# Altium schematic symbol library SDRdrum.SchLib: 41 symbols
Pins are listed as number, name and electrical type; pins without a type are passive.

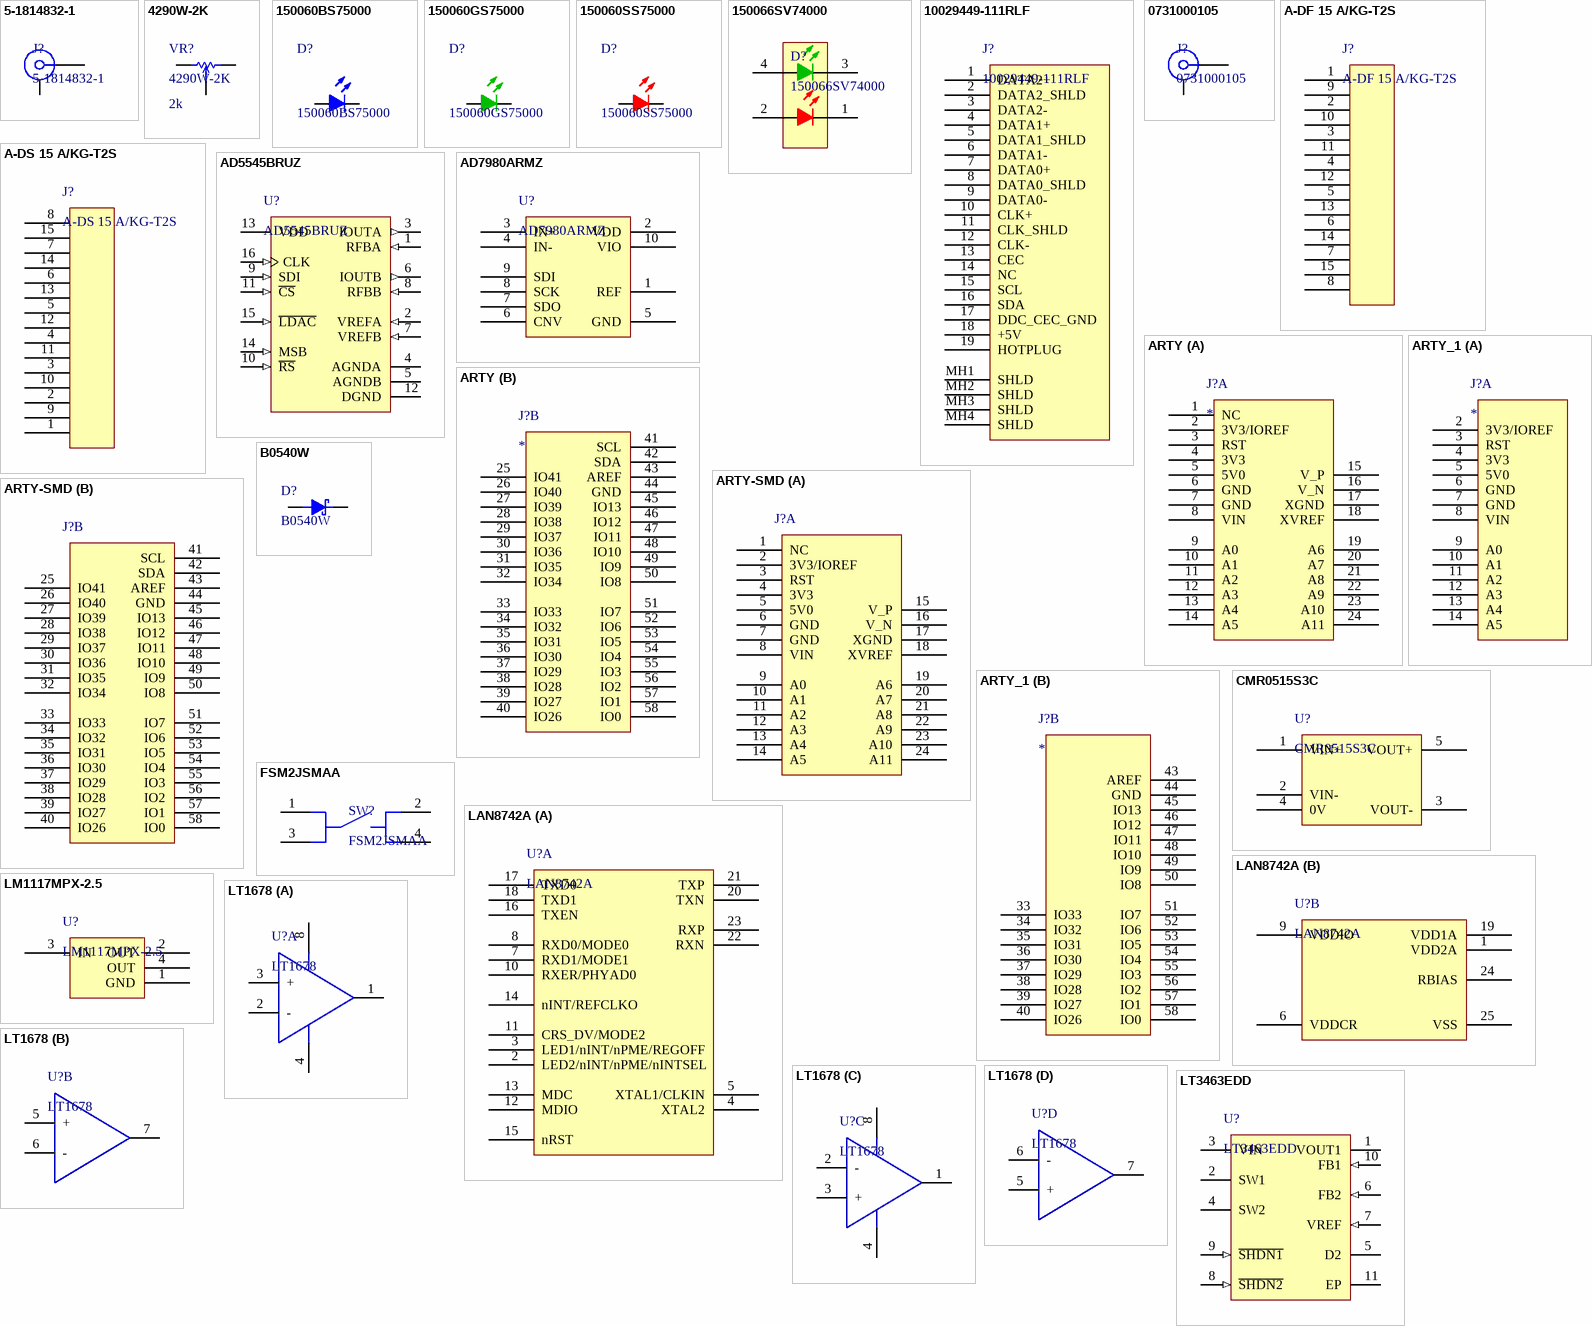
[diagram p0: symbols 5-1814832-1 to LT3463EDD]

## 5-1814832-1
designator J?
Connector, SMA Female Jack, Vertical, Through Hold
footprint 5-1814832-1
pins: 1, MH

## 4290W-2K
designator VR?  value 2k
footprint 4290W
pins: 1, 2, 3

## 150060BS75000
designator D?
LED, Blue (470 nm), 145 mcd, 20 mA, 0805; Supplier 1: Digi-Key; Supplier Part Number 1: 475-1410-1-ND
footprint WL-SMCW-0603-B (Chip Array, Concave, 2-Leads, Pitch 1.27mm,  Body 1.25x2.00mm,  IPC Medium Density)
pins: 1 K, 2 A

## 150060GS75000
designator D?
LED, Green (520 nm), 430 mcd, 20 mA, 0805; Supplier 1: Digi-Key; Supplier Part Number 1: 475-1410-1-ND
footprint WL-SMCW-0603-G (Chip Array, Concave, 2-Leads, Pitch 1.27mm,  Body 1.25x2.00mm,  IPC Medium Density)
pins: 1 K, 2 A

## 150060SS75000
designator D?
LED, Red (630 nm), 60 mcd, 20 mA, 0603; Supplier 1: Digi-Key; Supplier Part Number 1: 475-1278-1-ND
footprint WL-SMCW-0603-R (Chip Array, Concave, 2-Leads, Pitch 1.27mm,  Body 1.25x2.00mm,  IPC Medium Density)
pins: 1 K, 2 A

## 150066SV74000
designator D?
LED, Green (570 nm)/Red (630 nm), Independent, 30 mcd/55 mcd, 20 mA, 0606
footprint WL-SBCW-0606-GR (Chip Array, Concave, 4-Leads, Pitch 0.85mm,  Body 1.60x1.60mm,  IPC Medium Density)
pins: 1 K, 2 A, 3 K, 4 A

## 10029449-111RLF
designator J?
Connector, Receptacle, HDMI, Right Angle, SMT
footprint 10029449-111RLF
pins: 1 DATA2+, 2 DATA2_SHLD, 3 DATA2-, 4 DATA1+, 5 DATA1_SHLD, 6 DATA1-, 7 DATA0+, 8 DATA0_SHLD, 9 DATA0-, 10 CLK+, 11 CLK_SHLD, 12 CLK-, 13 CEC, 14 NC, 15 SCL, 16 SDA, 17 DDC_CEC_GND, 18 +5V, 19 HOTPLUG, MH1 SHLD, MH2 SHLD, MH3 SHLD, MH4 SHLD

## 0731000105
designator J?
Connector, BNC Female Jack, Right Angle, Through Hole
footprint 0731000105
pins: 1, S

## A-DF 15 A/KG-T2S
designator J?
Connector, DA-15 Female, RIght Angle
footprint A-DF 15 A/KG-T2S
pins: 1, 2, 3, 4, 5, 6, 7, 8, 9, 10, 11, 12, 13, 14, 15

## A-DS 15 A/KG-T2S
designator J?
Connector, DA-15 Male, RIght Angle
footprint A-DS 15 A/KG-T2S
pins: 1, 2, 3, 4, 5, 6, 7, 8, 9, 10, 11, 12, 13, 14, 15

## AD5545BRUZ
designator U?
DAC, Dual, 16-bit, Current Output, SPI, -40 to 85 C, 16 TSSOP; Supplier 1: Digi-Key; Supplier Part Number 1: AD5545BRUZ-ND
footprint TSOP65P640X120-16N (TSOP, 16-Leads, Body 5.00x4.40mm, Pitch 0.65mm, IPC Medium Density)
pins: 1 RFBA (in) "Establish voltage output for DAC A by connecting this pin to an external amplifier output", 2 VREFA (in) "DAC A Reference Voltage Input Terminal. Establishes DAC A full-scale output voltage. This pin can be tied to the VDD pin.", 3 IOUTA (out) "DAC A Current Output.", 4 AGNDA (power) "DAC A Analog Ground.", 5 AGNDB (power) "DAC B Analog Ground.", 6 IOUTB (out) "DAC B Current Output.", 7 VREFB (in) "DAC B Reference Voltage Input Terminal. Establishes DAC B full-scale output voltage. This pin can be tied to the VDD pin.", 8 RFBB (in) "Establish voltage output for DAC B by the RFBB pin connecting to an external amplifier output.", 9 SDI (in) "Serial Data Input. Input data loads directly into the shift register.", 10 ~{RS} (in) "Reset Pin, Active Low Input. Input registers and DAC registers are set to all 0s or midscale. Register Data = 0x0000 when MSB = 0. Register Data = 0x8000 for AD5545 and 0x2000 for AD5555 when MSB = 1.", 11 ~{CS} (in) "Chip Select, Active Low Input. Disables shift register loading when high. Transfers serial register data to the input register when C\S\/L\D\A\C\ returns high. This does not affect L\D\A\C\ operation.", 12 DGND (power) "Digital Ground Pin.", 13 VDD (power) "Positive Power Supply Input. Specified range of operation 5 V +/- 10% or 3 V +/- 10%.", 14 MSB (in) "MSB bit sets output to either 0 or midscale during a RESET pulse (R\S\) or at system power-on. Output equals zero scale when MSB = 0 and midscale when MSB = 1. MSB pin can also be tied permanently to ground or VDD.", 15 ~{LDAC} (in) "Load DAC Register Strobe, Level Sensitive Active Low. Transfers all input register data to DAC registers. Asynchronous active low input. See Table 7 and Table 8 for operation.", 16 CLK (in) "Clock Input. Positive edge clocks data into shift register"

## AD7980ARMZ
designator U?
ADC, 16-bit, 1 Msps, Pseudo-Differential Input, SPI, 10 TSSOP
footprint TSSOP50P490X110-10N (TSSOP, 10-Leads, Body 3.00x3.00mm, Pitch 0.50mm, IPC Medium Density)
pins: 1 REF, 2 VDD, 3 IN+, 4 IN-, 5 GND, 6 CNV, 7 SDO, 8 SCK, 9 SDI, 10 VIO

## ARTY
designator J?
footprint ARTY-TH
part A pins: 1 NC, 2 3V3/IOREF, 3 RST, 4 3V3, 5 5V0, 6 GND, 7 GND, 8 VIN, 9 A0, 10 A1, 11 A2, 12 A3, 13 A4, 14 A5, 15 V_P, 16 V_N, 17 XGND, 18 XVREF, 19 A6, 20 A7, 21 A8, 22 A9, 23 A10, 24 A11
part B pins: 25 IO41, 26 IO40, 27 IO39, 28 IO38, 29 IO37, 30 IO36, 31 IO35, 32 IO34, 33 IO33, 34 IO32, 35 IO31, 36 IO30, 37 IO29, 38 IO28, 39 IO27, 40 IO26, 41 SCL, 42 SDA, 43 AREF, 44 GND, 45 IO13, 46 IO12, 47 IO11, 48 IO10, 49 IO9, 50 IO8, 51 IO7, 52 IO6, 53 IO5, 54 IO4, 55 IO3, 56 IO2, 57 IO1, 58 IO0

## ARTY-SMD
designator J?  (value not drawn)
footprint ARTY-SMD
part A pins: 1 NC, 2 3V3/IOREF, 3 RST, 4 3V3, 5 5V0, 6 GND, 7 GND, 8 VIN, 9 A0, 10 A1, 11 A2, 12 A3, 13 A4, 14 A5, 15 V_P, 16 V_N, 17 XGND, 18 XVREF, 19 A6, 20 A7, 21 A8, 22 A9, 23 A10, 24 A11
part B pins: 25 IO41, 26 IO40, 27 IO39, 28 IO38, 29 IO37, 30 IO36, 31 IO35, 32 IO34, 33 IO33, 34 IO32, 35 IO31, 36 IO30, 37 IO29, 38 IO28, 39 IO27, 40 IO26, 41 SCL, 42 SDA, 43 AREF, 44 GND, 45 IO13, 46 IO12, 47 IO11, 48 IO10, 49 IO9, 50 IO8, 51 IO7, 52 IO6, 53 IO5, 54 IO4, 55 IO3, 56 IO2, 57 IO1, 58 IO0

## ARTY_1
designator J?
footprint ARTY-TH_1
part A pins: 2 3V3/IOREF, 3 RST, 4 3V3, 5 5V0, 6 GND, 7 GND, 8 VIN, 9 A0, 10 A1, 11 A2, 12 A3, 13 A4, 14 A5
part B pins: 33 IO33, 34 IO32, 35 IO31, 36 IO30, 37 IO29, 38 IO28, 39 IO27, 40 IO26, 43 AREF, 44 GND, 45 IO13, 46 IO12, 47 IO11, 48 IO10, 49 IO9, 50 IO8, 51 IO7, 52 IO6, 53 IO5, 54 IO4, 55 IO3, 56 IO2, 57 IO1, 58 IO0

## B0540W
designator D?
Supplier 1: Digi-Key; Supplier Part Number 1: B0540W-FDICT-ND
footprint SODFL370X135-2N (SODFL, 2-Leads, Body 1.55x3.70mm, IPC Medium Density)
pins: 1 K, 2 A

## CMR0515S3C
designator U?
Supplier 1: Digi-Key; Supplier Part Number 1: 811-2900-5-ND
footprint CMR-3C
pins: 1 VIN+, 2 VIN-, 3 VOUT-, 4 0V, 5 VOUT+

## FSM2JSMAA
designator SW?
footprint FSM2JSMA
pins: 1, 2, 3, 4

## LAN8742A
designator U?
10/100 Ethernet PHY, RMII, 0 to 85 C, 24 QFN; Supplier 1: Digikey; Supplier Part Number 1: LAN8742A-CZ-ND
footprint QFN50P400X400X100_HS-25N (QFN, 24-Leads, Body 4.00x4.00mm, Pitch 0.50mm, Thermal Pad 2.50x2.50mm, IPC Medium Density)
ibis lan8742i (Model Description)
part A pins: 2 LED2/nINT/nPME/nINTSEL, 3 LED1/nINT/nPME/REGOFF, 4 XTAL2, 5 XTAL1/CLKIN, 7 RXD1/MODE1, 8 RXD0/MODE0, 10 RXER/PHYAD0, 11 CRS_DV/MODE2, 12 MDIO, 13 MDC, 14 nINT/REFCLKO, 15 nRST, 16 TXEN, 17 TXD0, 18 TXD1, 20 TXN, 21 TXP, 22 RXN, 23 RXP
part B pins: 1 VDD2A, 6 VDDCR, 9 VDDIO, 19 VDD1A, 24 RBIAS, 25 VSS

## LM1117MPX-2.5
designator U?
LDO, +2.5 V Output
pins: 1 GND, 2 OUT, 3 IN, 4 OUT

## LT1678
designator U?
Dual/Quad Low Noise, Rail-to-Rail, Precision Op Amps, 8-Pin SOIC; Supplier 1: Digi-Key; Supplier Part Number 1: LT1678CS8#PBF-ND
footprint SOIC127P600X175-8M (SOIC, 8-Leads, Body 4.90x3.90mm, Pitch 1.27mm, IPC Low Density)
part A pins: 1 NC hidden, 1 OUT1, 2 -, 3 +, 4 V-, 8 NC hidden, 8 V+
part B pins: 5 +, 6 -, 7 OUT1
part C pins: 1 OUT1, 2 -, 3 +, 4 V-, 8 V+
part D pins: 5 +, 6 -, 7 OUT1

## LT3463EDD
designator U?
Dual Micropower DC/DC Converters with Schottky Diodes, 10-Pin DFN; Supplier 1: Digi-Key; Supplier Part Number 1: LT3463EDD#PBF-ND
footprint QFN50P300X300X80_HS-11N (QFN, 10-Leads, Body 3.00x3.00mm, Pitch 0.50mm, Thermal Pad 1.65x2.38mm, IPC Medium Density)
pins: 1 VOUT1 (power) "Output Voltage Switcher 1. This is the cathode of an internal Schottky diode whose anode is connected to the SW1 pin.", 2 SW1 "Switch Pin for Switcher 1. This is the collector of the internal NPN switch. Minimize the metal trace area connected to this pin to minimize EMI.", 3 VIN (power) "Input Supply Pin. Bypass this pin with a capacitor as close to the device as possible.", 4 SW2 (power) "Switch Pin for Switcher 2. This is the collector of the internal NPN switch. Minimize the metal trace area connected to this pin to minimize EMI.", 5 D2 "Diode for Switcher 2. This is the anode of an internal Schottky diode whose cathode connected to the GND pin.", 6 FB2 (in) "Feedback Pin for Switcher 2. Set the output voltage by selecting values for R3 and R4.", 7 VREF (in) "Voltage Reference Pin (1.25V). This pin is used along with FB2 to set the negative output voltage for Switcher 2.", 8 ~{SHDN2} (in) "Shutdown Pin for Switcher 2. Pull this pin above 1.5V to enable Switcher 2. Pull below 0.3V to turn it off. Do not leave this pin floating.", 9 ~{SHDN1} (in) "Shutdown Pin for Switcher 1. Pull this pin above 1.5V to enable Switcher 1. Pull below 0.3V to turn it off. Do not leave this pin floating.", 10 FB1 (in) "Feedback Pin for Switcher 1. Set the output voltage by selecting values for R1 and R2.", 11 EP (power) "Exposed Pad. Solder this exposed pad directly to the local ground plane. This pad must be electrically connected for proper operation."

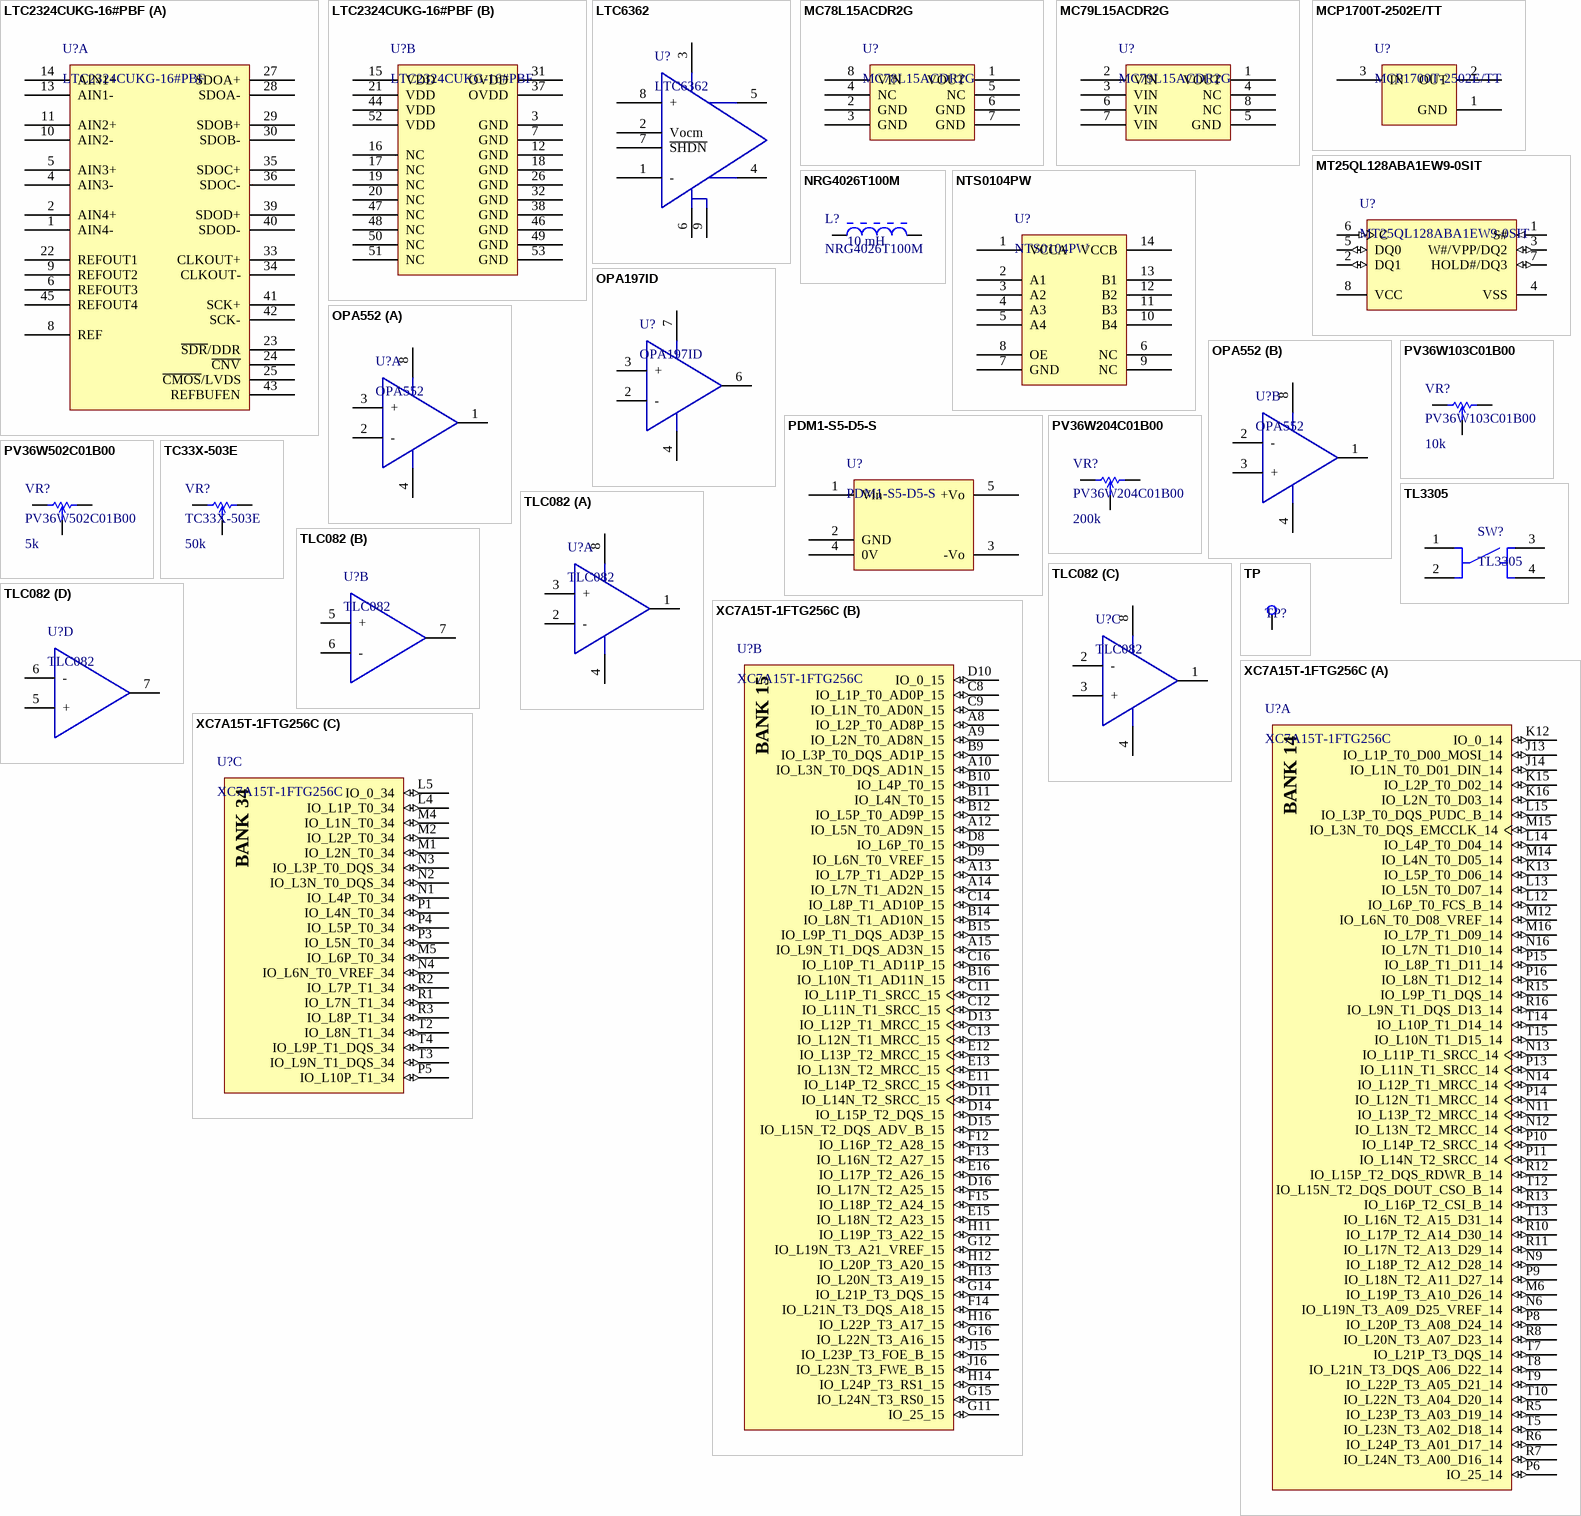
[diagram p1: symbols LTC2324CUKG-16#PBF to XC7A15T-1FTG256C]

## LTC2324CUKG-16#PBF
designator U?
ADC, Quad, 16-bit, 2 Msps, Differential Input, SPI/LVDS, 0 to 70 C, 52 QFN; Supplier 1: Digi-Key; Supplier Part Number 1: LTC2324HUKG-16#PBF-ND
footprint QFN50P700X800X80_HS-53N (QFN, 52-Leads, Body 7.00x8.00mm, Pitch 0.50mm, Thermal Pad 5.41x6.45mm, IPC Medium Density)
part A pins: 1 AIN4-, 2 AIN4+, 4 AIN3-, 5 AIN3+, 6 REFOUT3, 8 REF, 9 REFOUT2, 10 AIN2-, 11 AIN2+, 13 AIN1-, 14 AIN1+, 22 REFOUT1, 23 ~{SDR}/DDR, 24 ~{CNV}, 25 ~{CMOS}/LVDS, 27 SDOA+, 28 SDOA-, 29 SDOB+, 30 SDOB-, 33 CLKOUT+, 34 CLKOUT-, 35 SDOC+, 36 SDOC-, 39 SDOD+, 40 SDOD-, 41 SCK+, 42 SCK-, 43 REFBUFEN, 45 REFOUT4
part B pins: 3 GND, 7 GND, 12 GND, 15 VDD, 16 NC, 17 NC, 18 GND, 19 NC, 20 NC, 21 VDD, 26 GND, 31 OVDD, 32 GND, 37 OVDD, 38 GND, 44 VDD, 46 GND, 47 NC, 48 NC, 49 GND, 50 NC, 51 NC, 52 VDD, 53 GND

## LTC6362
designator U?
Precision, Low Power Rail-to-Rail Input/Output Differential Op Amp/SAR ADC Driver, 8-Pin DFN; Supplier 1: Digi-Key; Supplier Part Number 1: LTC6362IDD#PBF-ND
footprint QFN50P300X300X80_HS-9N (QFN, 8-Leads, Body 3.00x3.00mm, Pitch 0.50mm, Thermal Pad 2.38x1.65mm, IPC Medium Density)
pins: 1 -, 2 Vocm, 3 V+, 4 OUT+, 5 OUT-, 6 V-, 7 ~{SHDN}, 8 +, 9 V-

## MC78L15ACDR2G
designator U?
LDO, +15 V Output, 0 to 125 C, 8 SOIC; Supplier 1: Digi-Key; Supplier Part Number 1: MC78L15ACDR2GOSCT-ND
footprint SOIC127P600X175-8M (SOIC, 8-Leads, Body 4.90x3.90mm, Pitch 1.27mm, IPC Low Density)
pins: 1 VOUT, 2 GND, 3 GND, 4 NC, 5 NC, 6 GND, 7 GND, 8 VIN

## MC79L15ACDR2G
designator U?
LDO, -15 V Output, 0 to 125 C, 8 SOIC; Supplier 1: Digi-Key; Supplier Part Number 1: MC79L15ACDR2GOSCT-ND
footprint SOIC127P600X175-8M (SOIC, 8-Leads, Body 4.90x3.90mm, Pitch 1.27mm, IPC Low Density)
pins: 1 VOUT, 2 VIN, 3 VIN, 4 NC, 5 GND, 6 VIN, 7 VIN, 8 NC

## MCP1700T-2502E/TT
designator U?
Supplier 1: Digi-Key; Supplier Part Number 1: MCP1700T-2502E/TTCT-ND
footprint SOT65P237X110-3N (SOT23, 3-Leads, Body 2.86x2.37mm, Pitch 0.65mm, IPC Medium Density)
pins: 1 GND, 2 OUT, 3 IN

## MT25QL128ABA1EW9-0SIT
designator U?
Memory, Flash, SPI, 128 Mb (16 M x8), -40 to 85 C, 8 WPDFN; Supplier 1: Digikey; Supplier Part Number 1: 557-1713-1-ND
footprint QFN127P800X600X100_HS-9N (QFN, 8-Leads, Body 8.00x6.00mm, Pitch 1.27mm, Thermal Pad 5.16x4.80mm, IPC Medium Density)
pins: 1 S# (in) "Chip select: When S# is HIGH, the device is deselected and DQ1 is at High-Z. When in extended SPI mode, with the device deselected, DQ1 is tri-stated. Unless an internal PROGRAM,ERASE, or WRITE STATUS REGISTER cycle is in (See Datasheet)", 2 DQ1 (io) "Serial data:Transfers data serially out of the device. Data is shifted out on the falling edge of the clock. DQ1 is used for input/output during the following operations: DUAL INPUT FAST PROGRAM, QUAD INPUT FAST PROGRAM, (See Datasheet)", 3 W#/VPP/DQ2 (io) "Write protect: W# can be used as a protection control input or in QIO-SPI operations.Supply voltage: If VPP is in the voltage range of VPPH, the signal acts as an additional power supply, as defined in the AC Measurement (See Datasheet)", 4 VSS (power) "Ground: Reference for the VCC supply voltage.", 5 DQ0 (io) "Serial data: Transfers data serially into the device. It receives command codes, addresses, and the data to be programmed. Values are latched on the rising edge of the clock. DQ0 is used for input/output during the following (See Datasheet)", 6 C (in) "Clock: Provides the timing of the serial interface. Commands, addresses, or data present at serial data inputs are latched on the rising edge of the clock. Data is shifted out on the falling edge of the clock.", 7 HOLD#/DQ3 (io) "HOLD: Pauses any serial communications with the device without deselecting the device.DQ3: When in quad SPI mode or in extended SPI mode using quad FAST READ commands, the signal functions as DQ3, providing input/output.", 8 VCC (power) "Device core power supply: Source voltage."

## NRG4026T100M
designator L?  value 10 mH
Supplier 1: Digi-Key; Supplier Part Number 1: 587-2376-1-ND
footprint INDP4040X26N (Precision Wire Wound Inductor, 2-Leads, Body 4.00x4.00mm, IPC Medium Density)
pins: 1, 2

## NTS0104PW
designator U?
Dual supply translating transceiver; open drain; auto direction sensing, 14-pin TSSOP; Supplier 1: Digi-Key; Supplier Part Number 1: 568-8382-1-ND
footprint TSOP65P640X110-14N (TSOP, 14-Leads, Body 5.00x4.40mm, Pitch 0.65mm, IPC Medium Density)
pins: 1 VCCA, 2 A1, 3 A2, 4 A3, 5 A4, 6 NC, 7 GND, 8 OE, 9 NC, 10 B4, 11 B3, 12 B2, 13 B1, 14 VCCB

## OPA197ID
designator U?
36-V, Precision, Rail-to-Rail Input/Output, LowOffset Voltage, Operational Amplifiers, 8-Pin SOIC; Supplier 1: Digi-Key; Supplier Part Number 1: 296-43866-1-ND
footprint SOIC127P600X175-8M (SOIC, 8-Leads, Body 4.90x3.90mm, Pitch 1.27mm, IPC Low Density)
pins: 1 NC hidden, 2 -, 3 +, 4 V-, 6 OUT-, 7 V+, 8 NC hidden

## OPA552
designator U?
Op Amp, 12 MHz, 24 V/us, +/-30 V, 8 SOIC
footprint SOIC127P600X175-8M (SOIC, 8-Leads, Body 4.90x3.90mm, Pitch 1.27mm, IPC Low Density)
part A pins: 1 NC hidden, 1 OUT1, 2 -, 3 +, 4 V-, 8 NC hidden, 8 V+
part B pins: 1 OUT1, 2 -, 3 +, 4 V-, 8 V+

## PDM1-S5-D5-S
designator U?
footprint PDM-1S
pins: 1 Vin, 2 GND, 3 -Vo, 4 0V, 5 +Vo

## PV36W103C01B00
designator VR?  value 10k
Potentiometer, 10 k, 10%, 0.5 W, Through Hole
footprint PV36W
pins: 1, 2, 3

## PV36W204C01B00
designator VR?  value 200k
Potentiometer, 200 k, 10%, 0.5 W, Through Hole
footprint PV36W
pins: 1, 2, 3

## PV36W502C01B00
designator VR?  value 5k
Potentiometer, 5 k, 10%, 0.5 W, Through Hole
footprint PV36W
pins: 1, 2, 3

## TC33X-503E
designator VR?  value 50k
footprint TC33
pins: 1, 2, 3

## TL3305
designator SW?
footprint TL3305
pins: 1, 2, 3, 4

## TLC082
designator U?
36-V, PrOperational Amplifiers, 8-Pin SOIC
footprint SOIC127P600X175-8M (SOIC, 8-Leads, Body 4.90x3.90mm, Pitch 1.27mm, IPC Low Density)
part A pins: 1 NC hidden, 1 OUT1, 2 -, 3 +, 4 V-, 8 NC hidden, 8 V+
part B pins: 5 +, 6 -, 7 OUT1
part C pins: 1 OUT1, 2 -, 3 +, 4 V-, 8 V+
part D pins: 5 +, 6 -, 7 OUT1

## TP
designator TP?  (value not drawn)
footprint TP
pins: 1

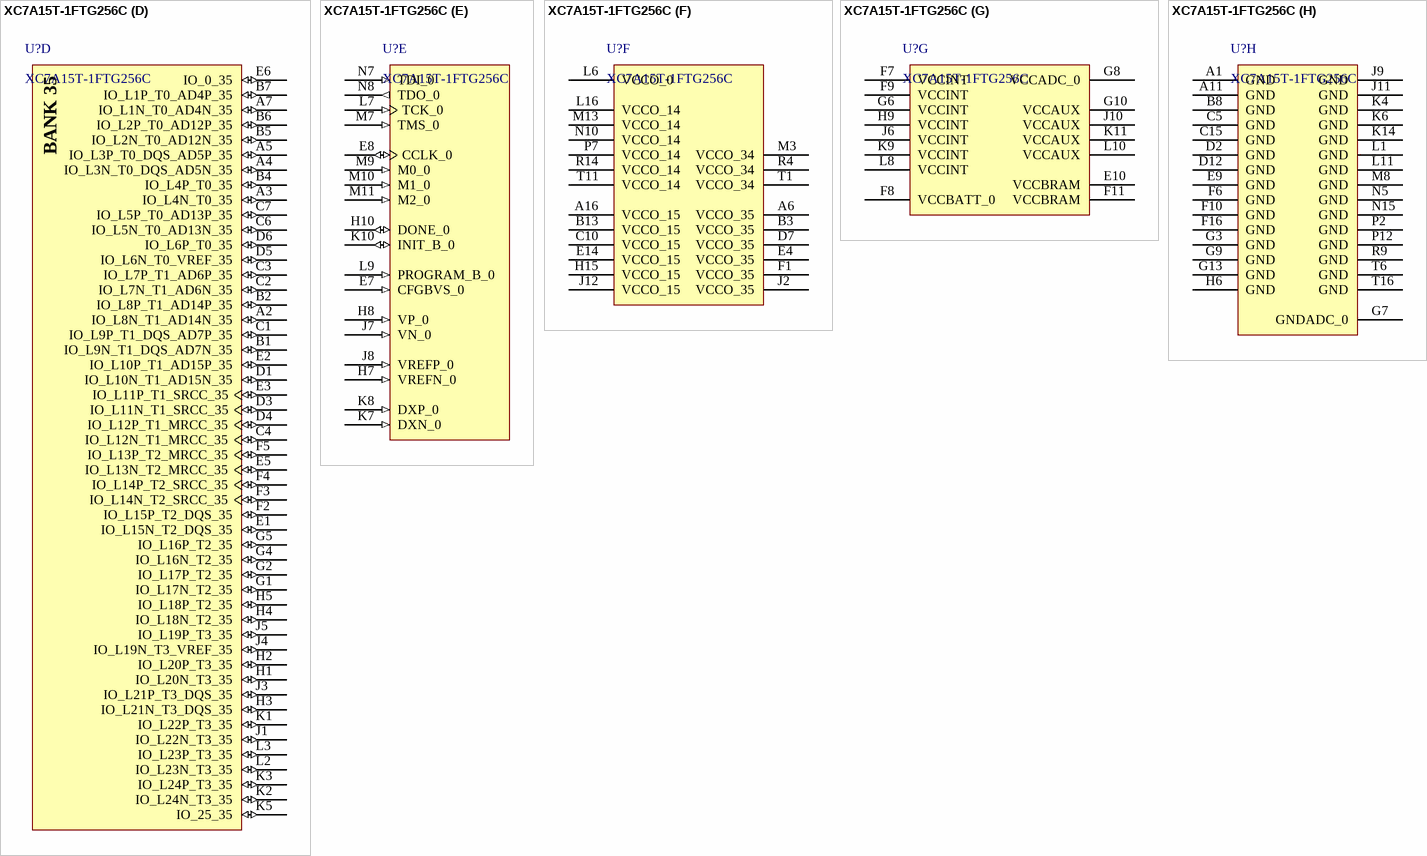
[diagram p2: symbol XC7A15T-1FTG256C]

## XC7A15T-1FTG256C
designator U?
FPGA, Xilinx Artix-7, 0 to 70 C, 256 BGA; Supplier 1: Digikey; Supplier Part Number 1: 122-1930-ND
footprint BGA256C100P16X16_1700X1700X155 (BGA, 256-Leads, Body 17.00x17.00mmx1.55mm, Pitch 1.00mm)
part A pins: J13 IO_L1P_T0_D00_MOSI_14 (io), J14 IO_L1N_T0_D01_DIN_14 (io), K12 IO_0_14 (io), K13 IO_L5P_T0_D06_14 (io), K15 IO_L2P_T0_D02_14 (io), K16 IO_L2N_T0_D03_14 (io), L12 IO_L6P_T0_FCS_B_14 (io), L13 IO_L5N_T0_D07_14 (io), L14 IO_L4P_T0_D04_14 (io), L15 IO_L3P_T0_DQS_PUDC_B_14 (io), M6 IO_L19P_T3_A10_D26_14 (io), M12 IO_L6N_T0_D08_VREF_14 (io), M14 IO_L4N_T0_D05_14 (io), M15 IO_L3N_T0_DQS_EMCCLK_14 (io), M16 IO_L7P_T1_D09_14 (io), N6 IO_L19N_T3_A09_D25_VREF_14 (io), N9 IO_L18P_T2_A12_D28_14 (io), N11 IO_L13P_T2_MRCC_14 (io), N12 IO_L13N_T2_MRCC_14 (io), N13 IO_L11P_T1_SRCC_14 (io), N14 IO_L12P_T1_MRCC_14 (io), N16 IO_L7N_T1_D10_14 (io), P6 IO_25_14 (io), P8 IO_L20P_T3_A08_D24_14 (io), P9 IO_L18N_T2_A11_D27_14 (io), P10 IO_L14P_T2_SRCC_14 (io), P11 IO_L14N_T2_SRCC_14 (io), P13 IO_L11N_T1_SRCC_14 (io), P14 IO_L12N_T1_MRCC_14 (io), P15 IO_L8P_T1_D11_14 (io), P16 IO_L8N_T1_D12_14 (io), R5 IO_L23P_T3_A03_D19_14 (io), R6 IO_L24P_T3_A01_D17_14 (io), R7 IO_L24N_T3_A00_D16_14 (io), R8 IO_L20N_T3_A07_D23_14 (io), R10 IO_L17P_T2_A14_D30_14 (io), R11 IO_L17N_T2_A13_D29_14 (io), R12 IO_L15P_T2_DQS_RDWR_B_14 (io), R13 IO_L16P_T2_CSI_B_14 (io), R15 IO_L9P_T1_DQS_14 (io), R16 IO_L9N_T1_DQS_D13_14 (io), T5 IO_L23N_T3_A02_D18_14 (io), T7 IO_L21P_T3_DQS_14 (io), T8 IO_L21N_T3_DQS_A06_D22_14 (io), T9 IO_L22P_T3_A05_D21_14 (io), T10 IO_L22N_T3_A04_D20_14 (io), T12 IO_L15N_T2_DQS_DOUT_CSO_B_14 (io), T13 IO_L16N_T2_A15_D31_14 (io), T14 IO_L10P_T1_D14_14 (io), T15 IO_L10N_T1_D15_14 (io)
part B pins: A8 IO_L2P_T0_AD8P_15 (io), A9 IO_L2N_T0_AD8N_15 (io), A10 IO_L3N_T0_DQS_AD1N_15 (io), A12 IO_L5N_T0_AD9N_15 (io), A13 IO_L7P_T1_AD2P_15 (io), A14 IO_L7N_T1_AD2N_15 (io), A15 IO_L9N_T1_DQS_AD3N_15 (io), B9 IO_L3P_T0_DQS_AD1P_15 (io), B10 IO_L4P_T0_15 (io), B11 IO_L4N_T0_15 (io), B12 IO_L5P_T0_AD9P_15 (io), B14 IO_L8N_T1_AD10N_15 (io), B15 IO_L9P_T1_DQS_AD3P_15 (io), B16 IO_L10N_T1_AD11N_15 (io), C8 IO_L1P_T0_AD0P_15 (io), C9 IO_L1N_T0_AD0N_15 (io), C11 IO_L11P_T1_SRCC_15 (io), C12 IO_L11N_T1_SRCC_15 (io), C13 IO_L12N_T1_MRCC_15 (io), C14 IO_L8P_T1_AD10P_15 (io), C16 IO_L10P_T1_AD11P_15 (io), D8 IO_L6P_T0_15 (io), D9 IO_L6N_T0_VREF_15 (io), D10 IO_0_15 (io), D11 IO_L14N_T2_SRCC_15 (io), D13 IO_L12P_T1_MRCC_15 (io), D14 IO_L15P_T2_DQS_15 (io), D15 IO_L15N_T2_DQS_ADV_B_15 (io), D16 IO_L17N_T2_A25_15 (io), E11 IO_L14P_T2_SRCC_15 (io), E12 IO_L13P_T2_MRCC_15 (io), E13 IO_L13N_T2_MRCC_15 (io), E15 IO_L18N_T2_A23_15 (io), E16 IO_L17P_T2_A26_15 (io), F12 IO_L16P_T2_A28_15 (io), F13 IO_L16N_T2_A27_15 (io), F14 IO_L21N_T3_DQS_A18_15 (io), F15 IO_L18P_T2_A24_15 (io), G11 IO_25_15 (io), G12 IO_L19N_T3_A21_VREF_15 (io), G14 IO_L21P_T3_DQS_15 (io), G15 IO_L24N_T3_RS0_15 (io), G16 IO_L22N_T3_A16_15 (io), H11 IO_L19P_T3_A22_15 (io), H12 IO_L20P_T3_A20_15 (io), H13 IO_L20N_T3_A19_15 (io), H14 IO_L24P_T3_RS1_15 (io), H16 IO_L22P_T3_A17_15 (io), J15 IO_L23P_T3_FOE_B_15 (io), J16 IO_L23N_T3_FWE_B_15 (io)
part C pins: L4 IO_L1P_T0_34 (io), L5 IO_0_34 (io), M1 IO_L2N_T0_34 (io), M2 IO_L2P_T0_34 (io), M4 IO_L1N_T0_34 (io), M5 IO_L6P_T0_34 (io), N1 IO_L4P_T0_34 (io), N2 IO_L3N_T0_DQS_34 (io), N3 IO_L3P_T0_DQS_34 (io), N4 IO_L6N_T0_VREF_34 (io), P1 IO_L4N_T0_34 (io), P3 IO_L5N_T0_34 (io), P4 IO_L5P_T0_34 (io), P5 IO_L10P_T1_34 (io), R1 IO_L7N_T1_34 (io), R2 IO_L7P_T1_34 (io), R3 IO_L8P_T1_34 (io), T2 IO_L8N_T1_34 (io), T3 IO_L9N_T1_DQS_34 (io), T4 IO_L9P_T1_DQS_34 (io)
part D pins: A2 IO_L8N_T1_AD14N_35 (io), A3 IO_L4N_T0_35 (io), A4 IO_L3N_T0_DQS_AD5N_35 (io), A5 IO_L3P_T0_DQS_AD5P_35 (io), A7 IO_L1N_T0_AD4N_35 (io), B1 IO_L9N_T1_DQS_AD7N_35 (io), B2 IO_L8P_T1_AD14P_35 (io), B4 IO_L4P_T0_35 (io), B5 IO_L2N_T0_AD12N_35 (io), B6 IO_L2P_T0_AD12P_35 (io), B7 IO_L1P_T0_AD4P_35 (io), C1 IO_L9P_T1_DQS_AD7P_35 (io), C2 IO_L7N_T1_AD6N_35 (io), C3 IO_L7P_T1_AD6P_35 (io), C4 IO_L12N_T1_MRCC_35 (io), C6 IO_L5N_T0_AD13N_35 (io), C7 IO_L5P_T0_AD13P_35 (io), D1 IO_L10N_T1_AD15N_35 (io), D3 IO_L11N_T1_SRCC_35 (io), D4 IO_L12P_T1_MRCC_35 (io), D5 IO_L6N_T0_VREF_35 (io), D6 IO_L6P_T0_35 (io), E1 IO_L15N_T2_DQS_35 (io), E2 IO_L10P_T1_AD15P_35 (io), E3 IO_L11P_T1_SRCC_35 (io), E5 IO_L13N_T2_MRCC_35 (io), E6 IO_0_35 (io), F2 IO_L15P_T2_DQS_35 (io), F3 IO_L14N_T2_SRCC_35 (io), F4 IO_L14P_T2_SRCC_35 (io), F5 IO_L13P_T2_MRCC_35 (io), G1 IO_L17N_T2_35 (io), G2 IO_L17P_T2_35 (io), G4 IO_L16N_T2_35 (io), G5 IO_L16P_T2_35 (io), H1 IO_L20N_T3_35 (io), H2 IO_L20P_T3_35 (io), H3 IO_L21N_T3_DQS_35 (io), H4 IO_L18N_T2_35 (io), H5 IO_L18P_T2_35 (io), J1 IO_L22N_T3_35 (io), J3 IO_L21P_T3_DQS_35 (io), J4 IO_L19N_T3_VREF_35 (io), J5 IO_L19P_T3_35 (io), K1 IO_L22P_T3_35 (io), K2 IO_L24N_T3_35 (io), K3 IO_L24P_T3_35 (io), K5 IO_25_35 (io), L2 IO_L23N_T3_35 (io), L3 IO_L23P_T3_35 (io)
part E pins: E7 CFGBVS_0 (in), E8 CCLK_0 (io), H7 VREFN_0 (in), H8 VP_0 (in), H10 DONE_0 (io), J7 VN_0 (in), J8 VREFP_0 (in), K7 DXN_0 (in), K8 DXP_0 (in), K10 INIT_B_0 (io), L7 TCK_0 (in), L9 PROGRAM_B_0 (in), M7 TMS_0 (in), M9 M0_0 (in), M10 M1_0 (in), M11 M2_0 (in), N7 TDI_0 (in), N8 TDO_0 (out)
part F pins: A6 VCCO_35 (power), A16 VCCO_15 (power), B3 VCCO_35 (power), B13 VCCO_15 (power), C10 VCCO_15 (power), D7 VCCO_35 (power), E4 VCCO_35 (power), E14 VCCO_15 (power), F1 VCCO_35 (power), H15 VCCO_15 (power), J2 VCCO_35 (power), J12 VCCO_15 (power), L6 VCCO_0 (power), L16 VCCO_14 (power), M3 VCCO_34 (power), M13 VCCO_14 (power), N10 VCCO_14 (power), P7 VCCO_14 (power), R4 VCCO_34 (power), R14 VCCO_14 (power), T1 VCCO_34 (power), T11 VCCO_14 (power)
part G pins: E10 VCCBRAM (power), F7 VCCINT (power), F8 VCCBATT_0 (power), F9 VCCINT (power), F11 VCCBRAM (power), G6 VCCINT (power), G8 VCCADC_0 (power), G10 VCCAUX (power), H9 VCCINT (power), J6 VCCINT (power), J10 VCCAUX (power), K9 VCCINT (power), K11 VCCAUX (power), L8 VCCINT (power), L10 VCCAUX (power)
part H pins: A1 GND (power), A11 GND (power), B8 GND (power), C5 GND (power), C15 GND (power), D2 GND (power), D12 GND (power), E9 GND (power), F6 GND (power), F10 GND (power), F16 GND (power), G3 GND (power), G7 GNDADC_0 (power), G9 GND (power), G13 GND (power), H6 GND (power), J9 GND (power), J11 GND (power), K4 GND (power), K6 GND (power), K14 GND (power), L1 GND (power), L11 GND (power), M8 GND (power), N5 GND (power), N15 GND (power), P2 GND (power), P12 GND (power), R9 GND (power), T6 GND (power), T16 GND (power)
part A text: BANK 14
part B text: BANK 15
part C text: BANK 34
part D text: BANK 35